# EAGLE library part TLC59711 (library greg-IC)
12-Channel, 16-Bit RGB LED Driver Texas Instruments TLC59711 The TLC59711 is a 12-channel constant current sink LED driver. Each output channel has individually adjustable currents with 65536 PWM grayscale (GS) steps. Also, each color group can be controlled by 128 constant current sink steps with the global brightness control (BC) function. GS control and BC are accessible via a two-wire signal interface. The maximum current value for each channel is set by a single external resistor. 12 constant current sink output channels Current capability 60mA per channel LED supply voltage up to 17V Unlimited device cascading TLC59711 Datasheet <http://www.ti.com/lit/ds/symlink/tlc59711.pdf>
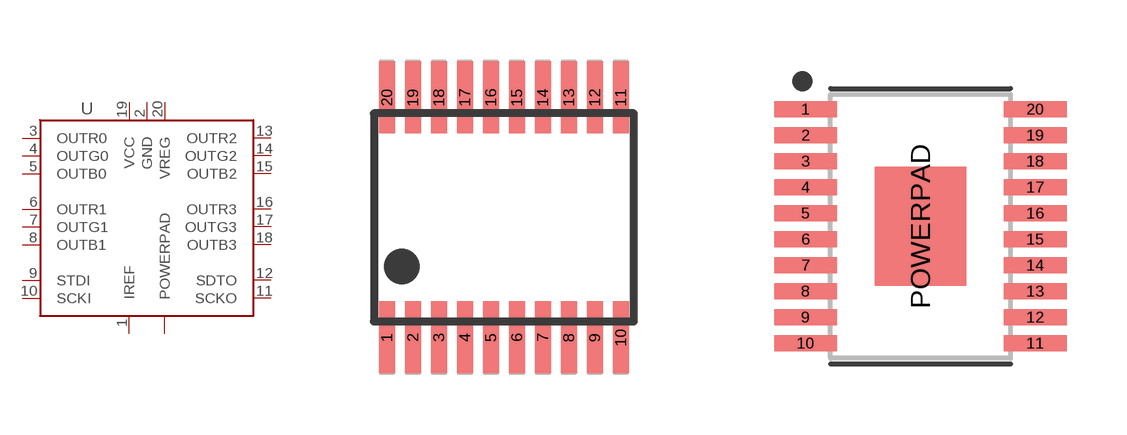
[diagram p2: symbol with the pads of SSOP20; footprints SSOP20, SOP65P640X120-20-POWERPAD]

Designator prefix U

## TLC59711SSOP20  [SSOP20]
1  IREF
2  GND  sup
3  OUTR0
4  OUTG0
5  OUTB0
6  OUTR1
7  OUTG1
8  OUTB1
9  STDI
10  SCKI
11  SCKO
12  SDTO
13  OUTR2
14  OUTG2
15  OUTB2
16  OUTR3
17  OUTG3
18  OUTB3
19  VCC  sup
20  VREG  pas

## TLC59711PWP  [SOP65P640X120-20-POWERPAD]
1  IREF
2  GND  sup
3  OUTR0
4  OUTG0
5  OUTB0
6  OUTR1
7  OUTG1
8  OUTB1
9  STDI
10  SCKI
11  SCKO
12  SDTO
13  OUTR2
14  OUTG2
15  OUTB2
16  OUTR3
17  OUTG3
18  OUTB3
19  VCC  sup
20  VREG  pas
POWERPAD  POWERPAD

## Footprint SSOP20 (pad centres in mm)
smd 0.4 x 1.8: 1 -2.925,-3; 2 -2.275,-3; 3 -1.625,-3; 4 -0.975,-3; 5 -0.325,-3; 6 0.325,-3; 7 0.975,-3; 8 1.625,-3; 9 2.275,-3; 10 2.925,-3; 11 2.925,3; 12 2.275,3; 13 1.625,3; 14 0.975,3; 15 0.325,3; 16 -0.325,3; 17 -0.975,3; 18 -1.625,3; 19 -2.275,3; 20 -2.925,3

## Footprint SOP65P640X120-20-POWERPAD (pad centres in mm)
20-SOP, 0.65 mm pitch, 6.40 mm span, 6.50 X 4.40 X 1.20 mm body 20-pin SOP package with 0.65 mm pitch, 6.40 mm span with body size 6.50 X 4.40 X 1.20 mm
smd 1.572 x 0.407: 1 -2.872,2.925; 2 -2.872,2.275; 3 -2.872,1.625; 4 -2.872,0.975; 5 -2.872,0.325; 6 -2.872,-0.325; 7 -2.872,-0.975; 8 -2.872,-1.625; 9 -2.872,-2.275; 10 -2.872,-2.925; 11 2.872,-2.925; 12 2.872,-2.275; 13 2.872,-1.625; 14 2.872,-0.975; 15 2.872,-0.325; 16 2.872,0.325; 17 2.872,0.975; 18 2.872,1.625; 19 2.872,2.275; 20 2.872,2.925
smd 2.29 x 2.97: POWERPAD 0,0